# Altium schematic symbol library Schlib1.SchLib: 2 symbols
Pins are listed as number, name and electrical type; pins without a type are passive.

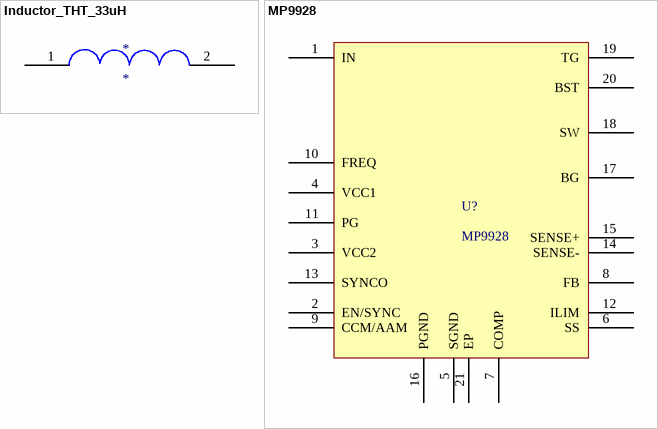
[diagram p0: symbols Inductor_THT_33uH to MP9928]

## Inductor_THT_33uH
designator *
pins: 1, 2

## MP9928
designator U?
pins: 1 IN (power), 2 EN/SYNC, 3 VCC2, 4 VCC1, 5 SGND (power), 6 SS, 7 COMP, 8 FB, 9 CCM/AAM, 10 FREQ, 11 PG, 12 ILIM, 13 SYNCO, 14 SENSE-, 15 SENSE+, 16 PGND (power), 17 BG, 18 SW, 19 TG, 20 BST, 21 EP